# Altium schematic symbol library 1759547-1.SchLib: 1 symbol
Pins are listed as number, name and electrical type; pins without a type are passive.

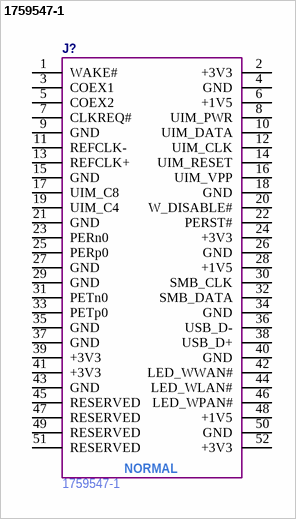
[diagram p0: symbol 1759547-1]

## 1759547-1
designator J?  Manufacture Part Number: 1759547-1
pins: 1 WAKE#, 2 +3V3, 3 COEX1, 4 GND, 5 COEX2, 6 +1V5, 7 CLKREQ#, 8 UIM_PWR, 9 GND, 10 UIM_DATA, 11 REFCLK-, 12 UIM_CLK, 13 REFCLK+, 14 UIM_RESET, 15 GND, 16 UIM_VPP, 17 UIM_C8, 18 GND, 19 UIM_C4, 20 W_DISABLE#, 21 GND, 22 PERST#, 23 PERn0, 24 +3V3, 25 PERp0, 26 GND, 27 GND, 28 +1V5, 29 GND, 30 SMB_CLK, 31 PETn0, 32 SMB_DATA, 33 PETp0, 34 GND, 35 GND, 36 USB_D-, 37 GND, 38 USB_D+, 39 +3V3, 40 GND, 41 +3V3, 42 LED_WWAN#, 43 GND, 44 LED_WLAN#, 45 RESERVED, 46 LED_WPAN#, 47 RESERVED, 48 +1V5, 49 RESERVED, 50 GND, 51 RESERVED, 52 +3V3
2 alternate drawings of the same symbol
text: NORMAL